# EAGLE library part S9B-EH (library con-JST EH)
JST EH series header 2.50mm pitch disconnectable crimp style connectors, horizontal (side entry type), 9 pins
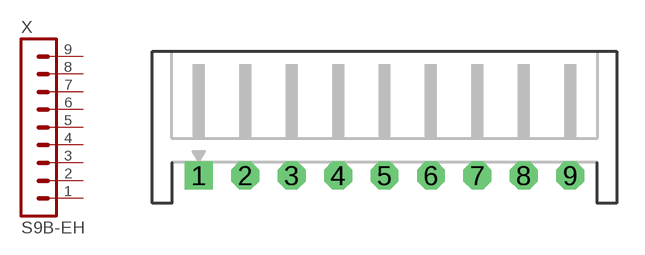
[diagram p13: symbol with the pads of S9B-EH; footprint S9B-EH]

Designator prefix X

## S9B-EH  [S9B-EH]
1  1  pas
2  2  pas
3  3  pas
4  4  pas
5  5  pas
6  6  pas
7  7  pas
8  8  pas
9  9  pas

## Footprint S9B-EH (pad centres in mm)
JST EH series header 2.50mm pitch disconnectable crimp style connectors, horizontal (side entry type), 9 pins
drill 0.9 pad 1.5 square: 1 -10,0
drill 0.9 pad 1.5 octagon: 2 -7.5,0; 3 -5,0; 4 -2.5,0; 5 0,0; 6 2.5,0; 7 5,0; 8 7.5,0; 9 10,0